# Altium schematic symbol library FB_MURATA_BLM15AX102SZ1D_1k.SchLib: 1 symbol
Pins are listed as number, name and electrical type; pins without a type are passive.

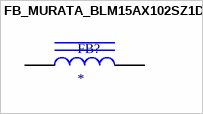
[diagram p0: symbol FB_MURATA_BLM15AX102SZ1D_1k]

## FB_MURATA_BLM15AX102SZ1D_1k
designator FB?
FB SMD 1000 OHM 25% 3/4W 0402; Supplier Part Number 1: 81-BLM15AX102SZ1D; Supplier 1: Mouser
footprint FB_MURATA_BLM15AX102SZ1D_1k (Feb SMD 1000 OHM 25% 3/4W 0402)
pins: 1, 2